# EAGLE library part FFC-16 (library BrownSpaceEngineering)
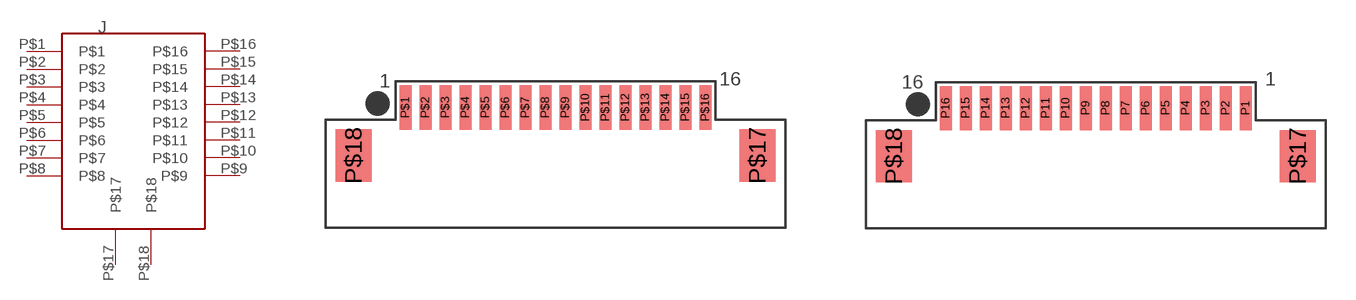
[diagram p26: symbol with the pads of 68611614422; footprints 68611614422, 68611614422-REVERSE]

Designator prefix J

## FFC-16  [68611614422]
P$1  P$1
P$2  P$2
P$3  P$3
P$4  P$4
P$5  P$5
P$6  P$6
P$7  P$7
P$8  P$8
P$9  P$9
P$10  P$10
P$11  P$11
P$12  P$12
P$13  P$13
P$14  P$14
P$15  P$15
P$16  P$16
P$17  P$17
P$18  P$18

## FFC-16REVERSE  [68611614422-REVERSE]
P1  P$1
P2  P$2
P3  P$3
P4  P$4
P5  P$5
P6  P$6
P7  P$7
P8  P$8
P9  P$9
P10  P$10
P11  P$11
P12  P$12
P13  P$13
P14  P$14
P15  P$15
P16  P$16
P$17  P$17
P$18  P$18

## Footprint 68611614422 (pad centres in mm)
smd 0.6 x 2.2: P$1 0,0; P$2 1,0; P$3 2,0; P$4 3,0; P$5 4,0; P$6 5,0; P$7 6,0; P$8 7,0; P$9 8,0; P$10 9,0; P$11 10,0; P$12 11,0; P$13 12,0; P$14 13,0; P$15 14,0; P$16 15,0
smd 1.8 x 2.6: P$17 17.6,-2.4; P$18 -2.6,-2.4

## Footprint 68611614422-REVERSE (pad centres in mm)
smd 0.6 x 2.2: P1 15,0; P2 14,0; P3 13,0; P4 12,0; P5 11,0; P6 10,0; P7 9,0; P8 8,0; P9 7,0; P10 6,0; P11 5,0; P12 4,0; P13 3,0; P14 2,0; P15 1,0; P16 0,0
smd 1.8 x 2.6: P$17 17.6,-2.4; P$18 -2.6,-2.4